# EAGLE library part AQM_I2C_LCD (library 180118 Library by matsu)
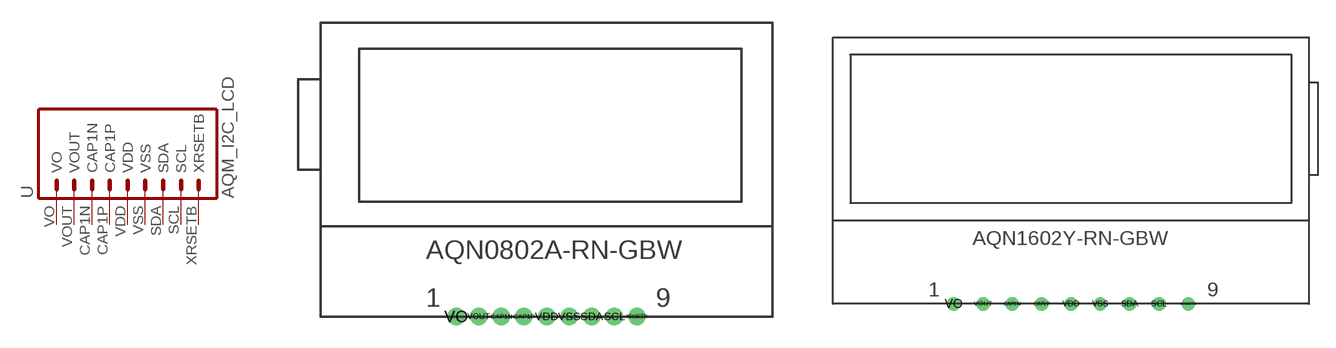
[diagram p53: symbol with the pads of AQM0802A-RN-GBW; footprints AQM0802A-RN-GBW, AQM1602Y-RN-GBW]

Designator prefix -

## AQM_I2C_LCD8X2  [AQM0802A-RN-GBW]
CAP1N  CAP1N
CAP1P  CAP1P
SCL  SCL
SDA  SDA
VDD  VDD
VO  VO
VOUT  VOUT
VSS  VSS
XRSETB  XRSETB

## AQM_I2C_LCD16X2  [AQM1602Y-RN-GBW]
Pads as for AQM0802A-RN-GBW

## Footprint AQM0802A-RN-GBW (pad centres in mm)
drill 0.65: CAP1N 12,0; CAP1P 13.5,0; SCL 19.5,0; SDA 18,0; VDD 15,0; VO 9,0; VOUT 10.5,0; VSS 16.5,0; XRSETB 21,0

## Footprint AQM1602Y-RN-GBW (pad centres in mm)
drill 0.65: CAP1N 15.52,0; CAP1P 18.06,0; SCL 28.22,0; SDA 25.68,0; VDD 20.6,0; VO 10.44,0; VOUT 12.98,0; VSS 23.14,0; XRSETB 30.76,0